# Altium footprint library SamacSys.PcbLib: 10 footprints
Each footprint in its own frame and in the unit in brackets; x right, y up, seen from the top. Pads: shape width x height; smd on the part's side, far side on the other; paste and mask are expansions set on the pad; w line width, h text height; cw(c..) or ccw(c..) is an arc to the next point about the centre after c.
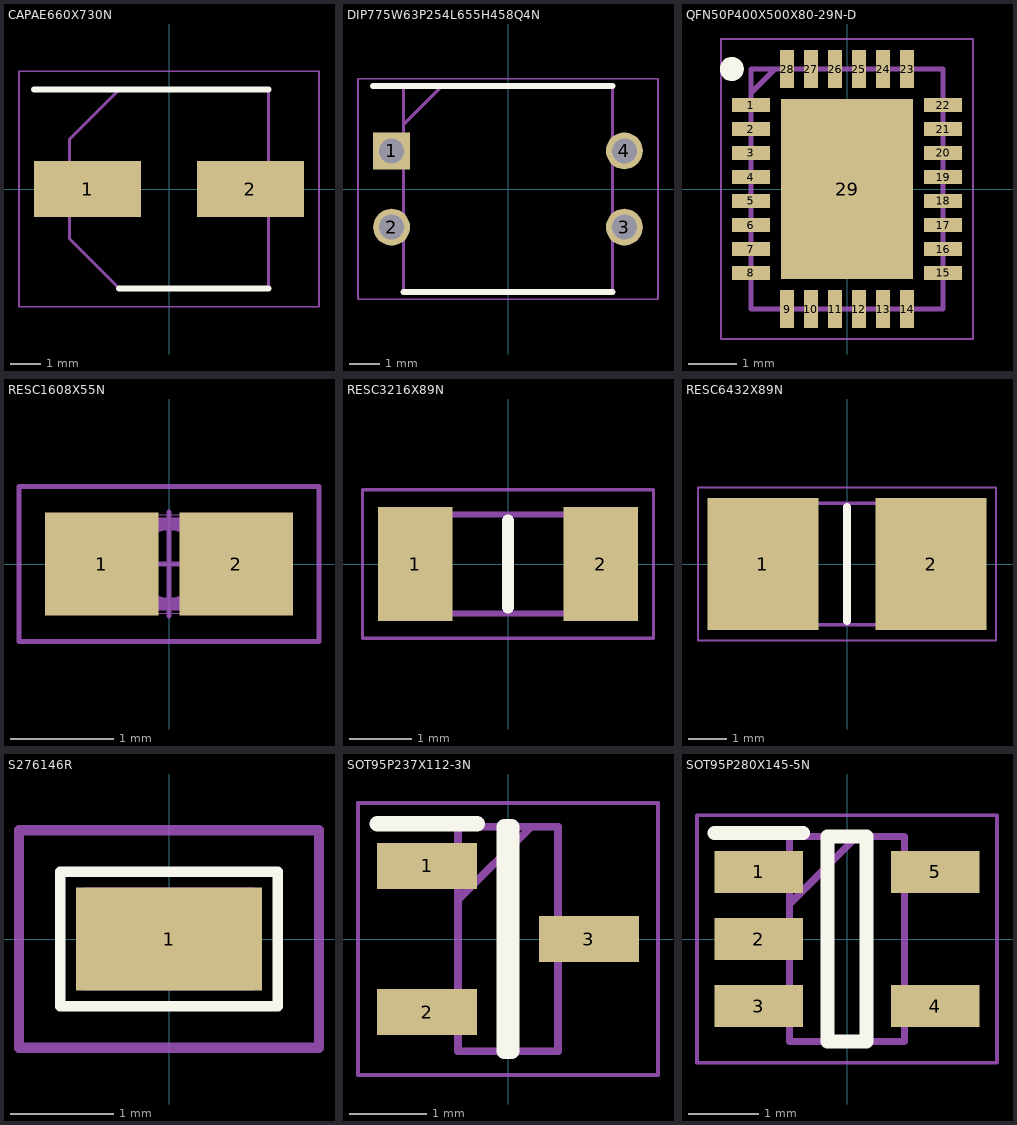
[diagram p0: the footprints below, top view; thin cyan lines are the x and y axes]

## CAPAE660X730N [mm]
pads (2):
  rect 3.55x1.85 smd: 1(-2.7,0) 2(2.7,0)
Top Overlay:
  lines w0.2: -4.475,3.3 3.3,3.3 ; -1.65,-3.3 3.3,-3.3
Mechanical 13:
  lines w0.1: -3.3,-1.65 -1.65,-3.3 3.3,-3.3 3.3,3.3 -1.65,3.3 -3.3,1.65 -3.3,-1.65
Mechanical 15:
  lines w0.05: -4.975,-3.9 -4.975,3.9 4.975,3.9 4.975,-3.9 -4.975,-3.9
3D body "A765EG157M1CLAE027.stp": height 0, standoff -6.8, extent -0.35,-0.2 7.15,7.105

## DIP775W63P254L655H458Q4N [mm]
pads (4):
  rect 1.23x1.23 hole 0.83: 1(-3.875,1.27)
  round 1.23 hole 0.83: 2(-3.875,-1.27) 3(3.875,-1.27) 4(3.875,1.27)
Top Overlay:
  lines w0.2: -4.49,3.425 3.475,3.425 ; -3.475,-3.425 3.475,-3.425
Mechanical 13:
  lines w0.1: -3.475,2.155 -2.205,3.425 ; -3.475,-3.425 -3.475,3.425 3.475,3.425 3.475,-3.425 -3.475,-3.425
Mechanical 15:
  lines w0.05: -4.995,-3.675 -4.995,3.675 4.995,3.675 4.995,-3.675 -4.995,-3.675
3D body "210-2MS.stp": height 4.58, standoff -3.5, extent -4.032,-3.275 4.032,3.275

## PCBComponent_1 [mm]

## QFN50P400X500X80-29N-D [mm]
pads (29):
  rect 0.8x0.3 smd: 1(-2,1.75) 2(-2,1.25) 3(-2,0.75) 4(-2,0.25) 5(-2,-0.25) 6(-2,-0.75) 7(-2,-1.25) 8(-2,-1.75) 15(2,-1.75) 16(2,-1.25) 17(2,-0.75) 18(2,-0.25) 19(2,0.25) 20(2,0.75) 21(2,1.25) 22(2,1.75)
  rect 0.3x0.8 smd: 9(-1.25,-2.5) 10(-0.75,-2.5) 11(-0.25,-2.5) 12(0.25,-2.5) 13(0.75,-2.5) 14(1.25,-2.5) 23(1.25,2.5) 24(0.75,2.5) 25(0.25,2.5) 26(-0.25,2.5) 27(-0.75,2.5) 28(-1.25,2.5)
  rect 2.75x3.75 smd: 29(0,0)
Top Overlay:
  circle w0.25: c-2.4,2.5 r0.125
Mechanical 13:
  lines w0.1: -2,2 -1.5,2.5 ; -2,-2.5 2,-2.5 2,2.5 -2,2.5 -2,-2.5
Mechanical 15:
  lines w0.05: -2.625,-3.125 2.625,-3.125 2.625,3.125 -2.625,3.125 -2.625,-3.125
3D body "LTC4162EUFD-L42#PBF.stp": height 0.8, standoff 0, extent -2.05,-2.55 2.05,2.55

## RESC1608X55N [mm]
pads (2):
  rect 1.1x1 smd: 1(-0.65,0) 2(0.65,0)
Mechanical 13:
  lines w0.1: -0.8,-0.4 0.8,-0.4 0.8,0.4 -0.8,0.4 -0.8,-0.4
Mechanical 15:
  circle w0.05: c0,0 r0.35
  lines w0.001: -0.85,-0.475 0.85,-0.475 0.85,0.475 -0.85,0.475 -0.85,-0.475
  lines w0.05: -0.5,0 0.5,0 ; 0,-0.5 0,0.5 ; -1.45,-0.75 1.45,-0.75 1.45,0.75 -1.45,0.75 -1.45,-0.75
3D body "RC0603FR-0763K4L.stp": height 0.55, standoff 0, extent -0.8,-0.4 0.8,0.4

## RESC3216X89N [mm]
pads (2):
  rect 1.2x1.85 smd: 1(-1.5,0) 2(1.5,0)
Top Overlay:
  lines w0.2: 0,-0.7 0,0.7
Mechanical 13:
  lines w0.1: -1.6,-0.8 1.6,-0.8 1.6,0.8 -1.6,0.8 -1.6,-0.8
Mechanical 15:
  lines w0.05: -2.35,-1.2 2.35,-1.2 2.35,1.2 -2.35,1.2 -2.35,-1.2
3D body "WSL1206R2500FEA.stp": height 0.64, standoff 0, extent -1.6,-0.8 1.6,0.8

## RESC6432X89N [mm]
pads (2):
  rect 2.9x3.45 smd: 1(-2.2,0) 2(2.2,0)
Top Overlay:
  lines w0.2: 0,-1.49 0,1.49
Mechanical 13:
  lines w0.1: -3.175,-1.59 -3.175,1.59 3.175,1.59 3.175,-1.59 -3.175,-1.59
Mechanical 15:
  lines w0.05: -3.9,-2 -3.9,2 3.9,2 3.9,-2 -3.9,-2
3D body "WSL2512R1000FEA.stp": height 0.64, standoff 0, extent -3.175,-1.59 3.175,1.59

## S276146R [mm]
pads (1):
  rect 1.8x1 smd: 1(0,0)
Top Overlay:
  lines w0.1: -1.05,-0.65 -1.05,0.65 1.05,0.65 1.05,-0.65 -1.05,-0.65
Mechanical 13:
  lines w0.2: -0.8,-0.4 -0.8,0.4 0.8,0.4 0.8,-0.4 -0.8,-0.4
Mechanical 15:
  lines w0.1: -1.45,-1.05 -1.45,1.05 1.45,1.05 1.45,-1.05 -1.45,-1.05
3D body "S2761-46R.stp": height 1.18, standoff 0, extent -0.8,-0.4 0.8,0.4

## SOT95P237X112-3N [mm]
pads (3):
  rect 1.3x0.6 smd: 1(-1.05,0.95) 2(-1.05,-0.95) 3(1.05,0)
Top Overlay:
  lines w0.2: -1.7,1.5 -0.4,1.5 ; -0.05,-1.46 -0.05,1.46 0.05,1.46 0.05,-1.46 -0.05,-1.46
Mechanical 13:
  lines w0.1: -0.65,0.51 0.3,1.46 ; -0.65,-1.46 -0.65,1.46 0.65,1.46 0.65,-1.46 -0.65,-1.46
Mechanical 15:
  lines w0.05: -1.95,-1.77 -1.95,1.77 1.95,1.77 1.95,-1.77 -1.95,-1.77
3D body "IRLML6344TRPBF.stp": height 1.12, standoff 0, extent -1.185,-1.46 1.185,1.46

## SOT95P280X145-5N [mm]
pads (5):
  rect 1.25x0.6 smd: 1(-1.25,0.95) 2(-1.25,0) 3(-1.25,-0.95) 4(1.25,-0.95) 5(1.25,0.95)
Top Overlay:
  lines w0.2: -1.875,1.5 -0.625,1.5 ; -0.275,-1.45 0.275,-1.45 0.275,1.45 -0.275,1.45 -0.275,-1.45
Mechanical 13:
  lines w0.1: -0.812,0.5 0.138,1.45 ; -0.812,-1.45 0.812,-1.45 0.812,1.45 -0.812,1.45 -0.812,-1.45
Mechanical 15:
  lines w0.05: -2.125,-1.75 2.125,-1.75 2.125,1.75 -2.125,1.75 -2.125,-1.75
3D body "MAX40200AUK+TCT.stp": height 1.45, standoff 0, extent -1.4,-1.45 1.4,1.45